# EAGLE library part 637101110108 (library WR-RAST)
WR-RAST 5mm Male Vertical Header Characteristics Pitch: 5mm Operating Temperature: -40 °C up to +110 °C Contact Type: Stamped Insulator Material: PA66 Insulator Flammability Rating: UL94 V-0 Insulator Color: Natural Contact Material: Copper Alloy Contact Plating: Tin Withstanding Voltage: 500 V (AC) Glow-Wire Compliancy Conform to IEC 60335-1 Tested at 750 °C and 850 °C Perform by third party laboratory Suitable for non-attended appliances and many other applications Applications White goods Unattended appliance Electrical Properties IR 16 A Working Voltage 380 V (AC) Withstanding Voltage 500 V (AC) Contact Resistance 20 mΩ General Information Pitch 5 mm Operating Temperature -40 °C up to +110 °C Contact Type Stamped Packaging Properties Packaging Tray Material Properties Insulator Material PA66 Insulator Flammability Rating UL94 V-0 Insulator Color Natural Contact Material Copper Alloy Contact Plating Tin <https://www.we-online.com/components/media/o798300v209%20Multi-WR-RAST5-637101110102.jpg> Details see: www.we-online.com/components/products/WR_RAST_5MM_MALE_VERTICAL_HEADER <www.we-online.com/catalog/WR_RAST_5MM_MALE_VERTICAL_HEADER/?utm_source=eagle_model&utm_medium=description_link&utm_campaign=eisos_eagle> Created by Ella 2024-10-10 2024 (C) Wurth Elektronik
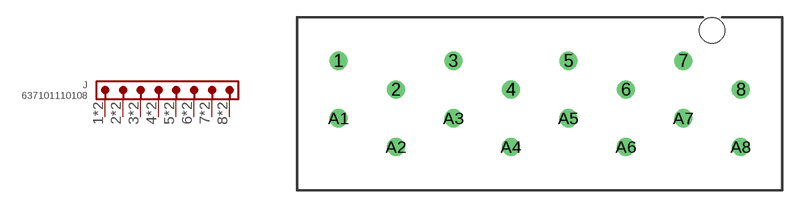
[diagram p3: symbol with the pads of 637101110108; footprint 637101110108]

Designator prefix J

## 637101110108 (CONTACT-RESISTANCE: 20mOhm; DATASHEET-URL: https://www.we-online.com/redexpert/spec/637101110108?ae; INSULATOR-COLOR: Natural; INSULATOR-MATERIAL: PA66; IR: 16A; PACKAGING: Tray; PART-NUMBER: 637101110108; PITCH: 5mm; POLARITY: 8; VALUE: 637101110108; WORKING-VOLTAGE: 380V(AC))  [637101110108]
1  1  pas
2  2  pas
3  3  pas
4  4  pas
5  5  pas
6  6  pas
7  7  pas
8  8  pas
A1  1  pas
A2  2  pas
A3  3  pas
A4  4  pas
A5  5  pas
A6  6  pas
A7  7  pas
A8  8  pas

## Footprint 637101110108 (pad centres in mm)
WR-RAST 5mm Male Vertical Header
drill 1.05: 1 -17.5,3.75; 2 -12.5,1.25; 3 -7.5,3.75; 4 -2.5,1.25; 5 2.5,3.75; 6 7.5,1.25; 7 12.5,3.75; 8 17.5,1.25; A1 -17.5,-1.25; A2 -12.5,-3.75; A3 -7.5,-1.25; A4 -2.5,-3.75; A5 2.5,-1.25; A6 7.5,-3.75; A7 12.5,-1.25; A8 17.5,-3.75
hole 2.2 at 15,6.4